# Altium footprint library TVS_Varistors_MOVs.PcbLib: 4 footprints
Each footprint in its own frame and in the unit in brackets; x right, y up, seen from the top. Pads: shape width x height; smd on the part's side, far side on the other; paste and mask are expansions set on the pad; w line width, h text height; cw(c..) or ccw(c..) is an arc to the next point about the centre after c.
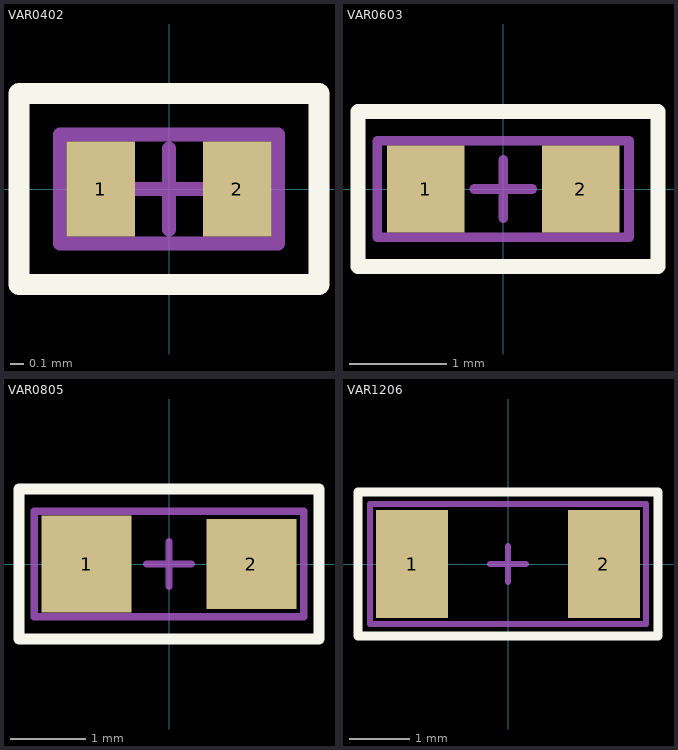
[diagram p0: the footprints below, top view; thin cyan lines are the x and y axes]

## VAR0402 [mm]
pads (2):
  rect 0.5x0.7 smd: 1(-0.5,0) 2(0.5,0)
Top Overlay:
  lines w0.153: -1.1,-0.7 -1.1,0.7 1.1,0.7 1.1,-0.7 -1.1,-0.7
Top Assembly:
  lines w0.1: -0.8,-0.4 0.8,-0.4 0.8,0.4 -0.8,0.4 -0.8,-0.4
  text "'.Designator'" at -4.532,-0.333 h0.8
Mechanical 15:
  lines w0.1: -0.3,0 0.3,0 ; 0,-0.3 0,0.3 ; -0.8,-0.4 -0.8,0.4 0.8,0.4 0.8,-0.4 -0.8,-0.4
3D body "User Library-d0402h025.STEP": height 0.25, standoff 0, extent -0.5,-0.25 0.5,0.25

## VAR0603 [mm]
pads (2):
  rect 0.8x0.9 smd: 1(-0.8,0) 2(0.8,0)
Top Overlay:
  lines w0.153: -1.5,-0.8 1.6,-0.8 1.6,0.8 -1.5,0.8 -1.5,-0.8
Top Assembly:
  lines w0.1: -1.3,-0.5 1.3,-0.5 1.3,0.5 -1.3,0.5 -1.3,-0.5
  text "'.Designator'" at -4.532,-0.333 h0.8
Mechanical 15:
  lines w0.1: -0.3,0 0.3,0 ; 0,-0.3 0,0.3 ; -1.3,-0.5 1.3,-0.5 1.3,0.5 -1.3,0.5 -1.3,-0.5
3D body "CircuitWorks-RESISTOR 0603.STEP": height 0.51, standoff 0, extent -0.8,-0.43 0.8,0.43

## VAR0805 [mm]
pads (2):
  rect 1.2x1.3 smd: 1(-1.1,0)
  rect 1.2x1.2 smd: 2(1.1,0)
Top Overlay:
  lines w0.153: -2,-1 -2,1 2,1 2,-1 -2,-1
Top Assembly:
  lines w0.1: -1.8,-0.7 1.8,-0.7 1.8,0.7 -1.8,0.7 -1.8,-0.7
  text "'.Designator'" at -4.532,-0.333 h0.8
Mechanical 15:
  lines w0.1: -0.3,0 0.3,0 ; 0,-0.3 0,0.3 ; -1.8,-0.7 1.8,-0.7 1.8,0.7 -1.8,0.7 -1.8,-0.7
3D body "CircuitWorks-RESISTOR 0805.STEP": height 0.43, standoff -0.03, extent -1,-0.63 1,0.63

## VAR1206 [mm]
pads (2):
  rect 1.2x1.8 smd: 1(-1.6,0) 2(1.6,0)
Top Overlay:
  lines w0.153: -2.5,-1.2 2.5,-1.2 2.5,1.2 -2.5,1.2 -2.5,-1.2
Top Assembly:
  lines w0.1: -2.3,-1 2.3,-1 2.3,1 -2.3,1 -2.3,-1
  text "'.Designator'" at -4.532,-0.333 h0.8
Mechanical 15:
  lines w0.1: -0.3,0 0.3,0 ; 0,-0.3 0,0.3 ; -2.3,-1 2.3,-1 2.3,1 -2.3,1 -2.3,-1
3D body "CircuitWorks-RESISTOR 1206.STEP": height 0.53, standoff -0.03, extent -1.6,-0.83 1.6,0.83